# EAGLE library part ACS781LLRTR-050U-T (library ACS781LLRTR-050U-T)
Allegro Microsystems ACS781LLRTR-050U-T, Current Sensor 5 + 2 Tab-Pin, PSOF Source: Datasheet <https://www.allegromicro.com/~/media/Files/Datasheets/ACS781-Datsaheet.ashx>
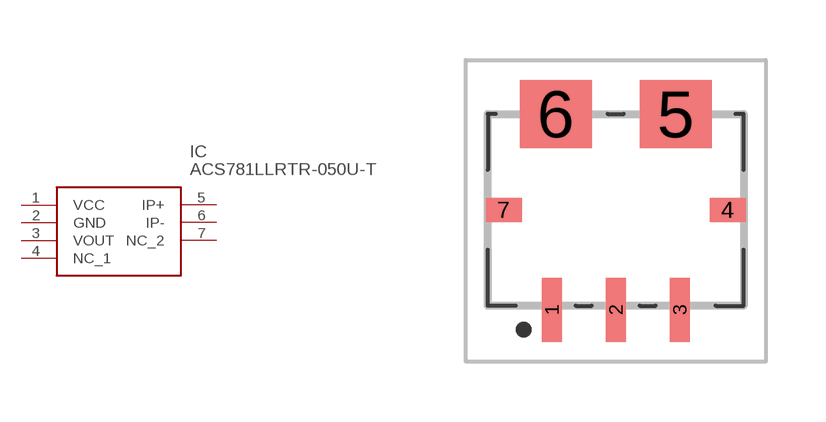
[diagram p0: symbol with the pads of ACS781LLRTR050BT; footprint ACS781LLRTR050BT]

Designator prefix IC

## ACS781LLRTR-050U-T (Description: Allegro Microsystems ACS781LLRTR-050U-T, Current Sensor 5 + 2 Tab-Pin, PSOF; Height: 1.5mm; Manufacturer_Name: Allegro Microsystems; Manufacturer_Part_Number: ACS781LLRTR-050U-T)  [ACS781LLRTR050BT]
1  VCC
2  GND
3  VOUT
4  NC_1
5  IP+
6  IP-
7  NC_2

## Footprint ACS781LLRTR050BT (pad centres in mm)
ACS781LLRTR-050B-T-3
smd 0.5 x 1.6: 1 -1.6,-2.5; 2 0,-2.5; 3 1.6,-2.5
smd 0.9 x 0.6: 4 2.8,0; 7 -2.8,0
smd 1.8 x 1.7: 5 1.5,2.4; 6 -1.5,2.4